# EAGLE library part 61001613321 (library Wuerth_Elektronik_eiCan_Pin_&_Socked_Headers_v1.3)
WR-PHD 2.54mm SMT Socket Header, 16 Pins
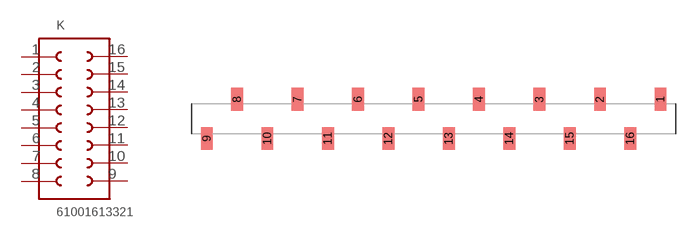
[diagram p245: symbol with the pads of 61001613321; footprint 61001613321]

Designator prefix K

## 61001613321  [61001613321]
1  1  pas
2  2  pas
3  3  pas
4  4  pas
5  5  pas
6  6  pas
7  7  pas
8  8  pas
9  9  pas
10  10  pas
11  11  pas
12  12  pas
13  13  pas
14  14  pas
15  15  pas
16  16  pas

## Footprint 61001613321 (pad centres in mm)
WR-PHD 2.54mm SMT Socket Header, 16 Pins
smd 1 x 1.91: 1 17.78,1.645; 2 12.7,1.645; 3 7.62,1.645; 4 2.54,1.645; 5 -2.54,1.645; 6 -7.62,1.645; 7 -12.7,1.645; 8 -17.78,1.645; 9 -20.32,-1.645; 10 -15.24,-1.645; 11 -10.16,-1.645; 12 -5.08,-1.645; 13 0,-1.645; 14 5.08,-1.645; 15 10.16,-1.645; 16 15.24,-1.645